# EAGLE library part AT45DB161E-SSHD2B-T (library SamacSys_Parts)
NOR Flash 16M 2.5-3.6V 85Mhz Data Flash Source: Datasheet <https://www.adestotech.com/wp-content/uploads/doc8782.pdf>
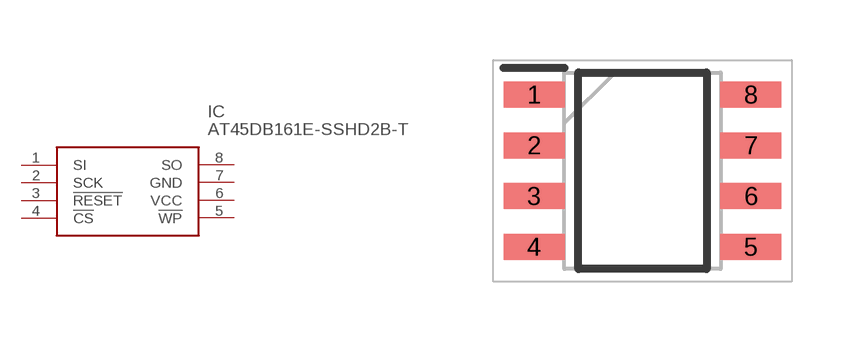
[diagram p2: symbol with the pads of SOIC127P600X175-8N; footprint SOIC127P600X175-8N]

Designator prefix IC

## AT45DB161E-SSHD2B-T (Arrow_Part_Number: AT45DB161E-SSHD2B-T; Description: NOR Flash 16M 2.5-3.6V 85Mhz Data Flash; Height: 1.75mm; Manufacturer_Name: Adesto Technologies; Manufacturer_Part_Number: AT45DB161E-SSHD2B-T; Mouser_Part_Number: 556-A45DB161ESSHD2BT; Mouser_Price-Stock: https://www.mouser.co.uk/ProductDetail/Adesto-Technologies/AT45DB161E-SSHD2B-T?qs=tNs2o57S7OkLGAH4wCRh2Q%3D%3D)  [SOIC127P600X175-8N]
1  SI
2  SCK
3  !RESET
4  !CS
5  !WP
6  VCC
7  GND
8  SO

## Footprint SOIC127P600X175-8N (pad centres in mm)
8S1 JEDEC SOIC
smd 1.525 x 0.65: 1 -2.712,1.905; 2 -2.712,0.635; 3 -2.712,-0.635; 4 -2.712,-1.905; 5 2.712,-1.905; 6 2.712,-0.635; 7 2.712,0.635; 8 2.712,1.905